# EAGLE library part PIC18F1220_SO (library 000001)
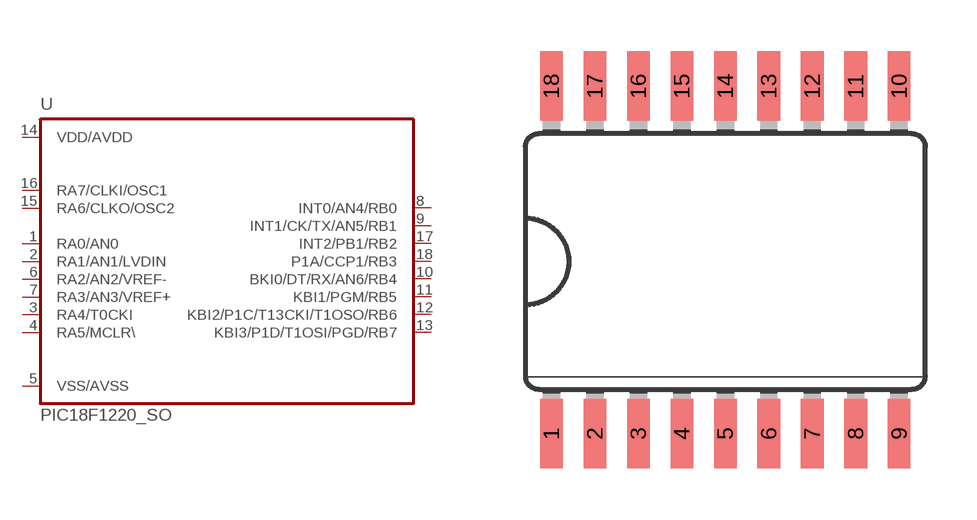
[diagram p70: symbol with the pads of SO18W; footprint SO18W]

Designator prefix -

## PIC18F1220_SO  [SO18W]
1  RA0/AN0
2  RA1/AN1/LVDIN
3  RA4/T0CKI
4  RA5/MCLR\  in
5  VSS/AVSS  pwr
6  RA2/AN2/VREF-
7  RA3/AN3/VREF+
8  INT0/AN4/RB0
9  INT1/CK/TX/AN5/RB1
10  BKI0/DT/RX/AN6/RB4
11  KBI1/PGM/RB5
12  KBI2/P1C/T13CKI/T1OSO/RB6
13  KBI3/P1D/T1OSI/PGD/RB7
14  VDD/AVDD  pwr
15  RA6/CLKO/OSC2
16  RA7/CLKI/OSC1
17  INT2/PB1/RB2
18  P1A/CCP1/RB3

## Footprint SO18W (pad centres in mm)
smd 0.66 x 2.032: 1 -8.255,-5.029; 2 -6.985,-5.029; 3 -5.715,-5.029; 4 -4.445,-5.029; 5 -3.175,-5.029; 6 -1.905,-5.029; 7 -0.635,-5.029; 8 0.635,-5.029; 9 1.905,-5.029; 10 1.905,5.131; 11 0.635,5.131; 12 -0.635,5.131; 13 -1.905,5.131; 14 -3.175,5.131; 15 -4.445,5.131; 16 -5.715,5.131; 17 -6.985,5.131; 18 -8.255,5.131